# Altium integrated library WE-VE.intlib: 21 symbols
Pins are listed as number, name and electrical type; pins without a type are passive.

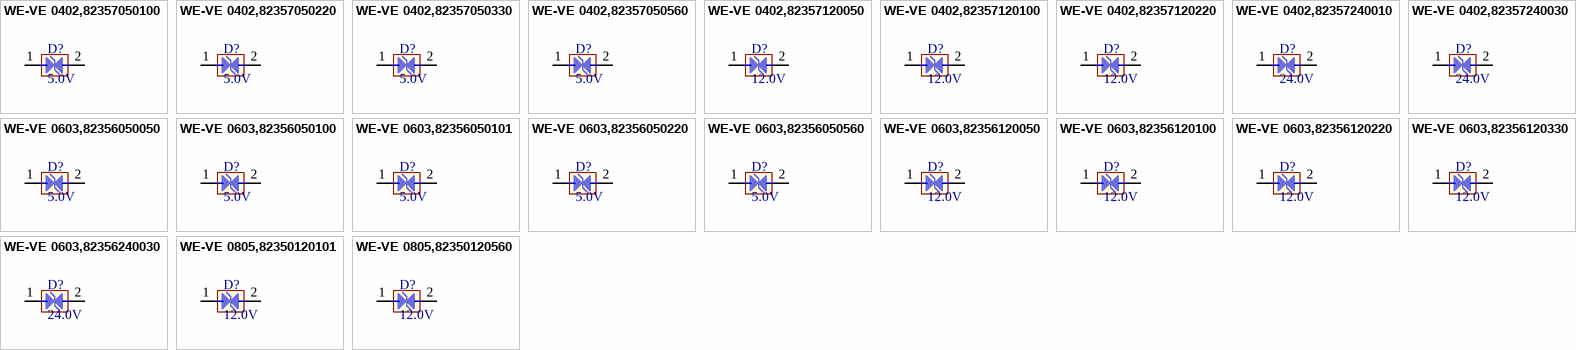
[diagram p0: symbols WE-VE 0402,82357050100 to WE-VE 0805,82350120560]

## WE-VE 0402,82357050100
designator D?, comment 5.0V
ESD Suppressor WE-VE, VDC=5.0V; PartNo: 82357050100; Manufacturer: Würth Elektronik eiSos GmbH; Reverse Stand Off Voltage: 5.0V; ComponentLink1Description: Manufacturer; ComponentLink1URL: http://www.we-online.de; Created by: Christin Zierenner; Created Date: March 2010; ComponentLink2Description: Datasheet; ComponentLink2URL: http://katalog.we-online.de/kataloge/eisos/media/pdf/82357050100.pdf
footprint 0402 (0402, 2-Leads, Body 1.8x0.7mm, Pitch 1.4mm)
pins: 1 I/O1, 2 I/O2

## WE-VE 0402,82357050220
designator D?, comment 5.0V
ESD Suppressor WE-VE, VDC=5.0V; PartNo: 82357050220; Manufacturer: Würth Elektronik eiSos GmbH; Reverse Stand Off Voltage: 5.0V; ComponentLink1Description: Manufacturer; ComponentLink1URL: http://www.we-online.de; Created by: Christin Zierenner; Created Date: March 2010; ComponentLink2Description: Datasheet; ComponentLink2URL: http://katalog.we-online.de/kataloge/eisos/media/pdf/82357050220.pdf
footprint 0402 (0402, 2-Leads, Body 1.8x0.7mm, Pitch 1.4mm)
pins: 1 I/O1, 2 I/O2

## WE-VE 0402,82357050330
designator D?, comment 5.0V
ESD Suppressor WE-VE, VDC=5.0V; PartNo: 82357050330; Manufacturer: Würth Elektronik eiSos GmbH; Reverse Stand Off Voltage: 5.0V; ComponentLink1Description: Manufacturer; ComponentLink1URL: http://www.we-online.de; Created by: Christin Zierenner; Created Date: March 2010; ComponentLink2Description: Datasheet; ComponentLink2URL: http://katalog.we-online.de/kataloge/eisos/media/pdf/82357050330.pdf
footprint 0402 (0402, 2-Leads, Body 1.8x0.7mm, Pitch 1.4mm)
pins: 1 I/O1, 2 I/O2

## WE-VE 0402,82357050560
designator D?, comment 5.0V
ESD Suppressor WE-VE, VDC=5.0V; PartNo: 82357050560; Manufacturer: Würth Elektronik eiSos GmbH; Reverse Stand Off Voltage: 5.0V; ComponentLink1Description: Manufacturer; ComponentLink1URL: http://www.we-online.de; Created by: Christin Zierenner; Created Date: March 2010; ComponentLink2Description: Datasheet; ComponentLink2URL: http://katalog.we-online.de/kataloge/eisos/media/pdf/82357050560.pdf
footprint 0402 (0402, 2-Leads, Body 1.8x0.7mm, Pitch 1.4mm)
pins: 1 I/O1, 2 I/O2

## WE-VE 0402,82357120050
designator D?, comment 12.0V
ESD Suppressor WE-VE, VDC=12.0V; PartNo: 82357120050; Manufacturer: Würth Elektronik eiSos GmbH; Reverse Stand Off Voltage: 12.0V; ComponentLink1Description: Manufacturer; ComponentLink1URL: http://www.we-online.de; Created by: Christin Zierenner; Created Date: March 2010; ComponentLink2Description: Datasheet; ComponentLink2URL: http://katalog.we-online.de/kataloge/eisos/media/pdf/82357120050.pdf
footprint 0402 (0402, 2-Leads, Body 1.8x0.7mm, Pitch 1.4mm)
pins: 1 I/O1, 2 I/O2

## WE-VE 0402,82357120100
designator D?, comment 12.0V
ESD Suppressor WE-VE, VDC=12.0V; PartNo: 82357120100; Manufacturer: Würth Elektronik eiSos GmbH; Reverse Stand Off Voltage: 12.0V; ComponentLink1Description: Manufacturer; ComponentLink1URL: http://www.we-online.de; Created by: Christin Zierenner; Created Date: March 2010; ComponentLink2Description: Datasheet; ComponentLink2URL: http://katalog.we-online.de/kataloge/eisos/media/pdf/82357120100.pdf
footprint 0402 (0402, 2-Leads, Body 1.8x0.7mm, Pitch 1.4mm)
pins: 1 I/O1, 2 I/O2

## WE-VE 0402,82357120220
designator D?, comment 12.0V
ESD Suppressor WE-VE, VDC=12.0V; PartNo: 82357120220; Manufacturer: Würth Elektronik eiSos GmbH; Reverse Stand Off Voltage: 12.0V; ComponentLink1Description: Manufacturer; ComponentLink1URL: http://www.we-online.de; Created by: Christin Zierenner; Created Date: March 2010; ComponentLink2Description: Datasheet; ComponentLink2URL: http://katalog.we-online.de/kataloge/eisos/media/pdf/82357120220.pdf
footprint 0402 (0402, 2-Leads, Body 1.8x0.7mm, Pitch 1.4mm)
pins: 1 I/O1, 2 I/O2

## WE-VE 0402,82357240010
designator D?, comment 24.0V
ESD Suppressor WE-VE, VDC=24.0V; PartNo: 82357240010; Manufacturer: Würth Elektronik eiSos GmbH; Reverse Stand Off Voltage: 24.0V; ComponentLink1Description: Manufacturer; ComponentLink1URL: http://www.we-online.de; Created by: Christin Zierenner; Created Date: March 2010; ComponentLink2Description: Datasheet; ComponentLink2URL: http://katalog.we-online.de/kataloge/eisos/media/pdf/82357240010.pdf
footprint 0402 (0402, 2-Leads, Body 1.8x0.7mm, Pitch 1.4mm)
pins: 1 I/O1, 2 I/O2

## WE-VE 0402,82357240030
designator D?, comment 24.0V
ESD Suppressor WE-VE, VDC=24.0V; PartNo: 82357240030; Manufacturer: Würth Elektronik eiSos GmbH; Reverse Stand Off Voltage: 24.0V; ComponentLink1Description: Manufacturer; ComponentLink1URL: http://www.we-online.de; Created by: Christin Zierenner; Created Date: March 2010; ComponentLink2Description: Datasheet; ComponentLink2URL: http://katalog.we-online.de/kataloge/eisos/media/pdf/82357240030.pdf
footprint 0402 (0402, 2-Leads, Body 1.8x0.7mm, Pitch 1.4mm)
pins: 1 I/O1, 2 I/O2

## WE-VE 0603,82356050050
designator D?, comment 5.0V
ESD Suppressor WE-VE, VDC=5.0V; PartNo: 82356050050; Manufacturer: Würth Elektronik eiSos GmbH; Reverse Stand Off Voltage: 5.0V; ComponentLink1Description: Manufacturer; ComponentLink1URL: http://www.we-online.de; Created by: Christin Zierenner; Created Date: March 2010; ComponentLink2Description: Datasheet; ComponentLink2URL: http://katalog.we-online.de/kataloge/eisos/media/pdf/82356050050.pdf
footprint 0603 (0603, 2-Leads, Body 1.6x0.8mm, Pitch 1.2mm)
pins: 1 I/O1, 2 I/O2

## WE-VE 0603,82356050100
designator D?, comment 5.0V
ESD Suppressor WE-VE, VDC=5.0V; PartNo: 82356050100; Manufacturer: Würth Elektronik eiSos GmbH; Reverse Stand Off Voltage: 5.0V; ComponentLink1Description: Manufacturer; ComponentLink1URL: http://www.we-online.de; Created by: Christin Zierenner; Created Date: March 2010; ComponentLink2Description: Datasheet; ComponentLink2URL: http://katalog.we-online.de/kataloge/eisos/media/pdf/82356050100.pdf
footprint 0603 (0603, 2-Leads, Body 1.6x0.8mm, Pitch 1.2mm)
pins: 1 I/O1, 2 I/O2

## WE-VE 0603,82356050101
designator D?, comment 5.0V
ESD Suppressor WE-VE,VDC=5.0V; PartNo: 82356050101; Manufacturer: Würth Elektronik eiSos GmbH; Reverse Stand Off Voltage: 5.0V; ComponentLink1Description: Manufacturer; ComponentLink1URL: http://www.we-online.de; Created by: Christin Zierenner; Created Date: March 2010; ComponentLink2Description: Datasheet; ComponentLink2URL: http://katalog.we-online.de/kataloge/eisos/media/pdf/82356050101.pdf
footprint 0603 (0603, 2-Leads, Body 1.6x0.8mm, Pitch 1.2mm)
pins: 1 I/O1, 2 I/O2

## WE-VE 0603,82356050220
designator D?, comment 5.0V
ESD Suppressor WE-VE, VDC=5.0V; PartNo: 82356050220; Manufacturer: Würth Elektronik eiSos GmbH; Reverse Stand Off Voltage: 5.0V; ComponentLink1Description: Manufacturer; ComponentLink1URL: http://www.we-online.de; Created by: Christin Zierenner; Created Date: March 2010; ComponentLink2Description: Datasheet; ComponentLink2URL: http://katalog.we-online.de/kataloge/eisos/media/pdf/82356050220.pdf
footprint 0603 (0603, 2-Leads, Body 1.6x0.8mm, Pitch 1.2mm)
pins: 1 I/O1, 2 I/O2

## WE-VE 0603,82356050560
designator D?, comment 5.0V
ESD Suppressor WE-VE,VDC=5.0V; PartNo: 82356050560; Manufacturer: Würth Elektronik eiSos GmbH; Reverse Stand Off Voltage: 5.0V; ComponentLink1Description: Manufacturer; ComponentLink1URL: http://www.we-online.de; Created by: Christin Zierenner; Created Date: March 2010; ComponentLink2Description: Datasheet; ComponentLink2URL: http://katalog.we-online.de/kataloge/eisos/media/pdf/82356050560.pdf
footprint 0603 (0603, 2-Leads, Body 1.6x0.8mm, Pitch 1.2mm)
pins: 1 I/O1, 2 I/O2

## WE-VE 0603,82356120050
designator D?, comment 12.0V
ESD Suppressor WE-VE,VDC=12.0V; PartNo: 82356120050; Manufacturer: Würth Elektronik eiSos GmbH; Reverse Stand Off Voltage: 12.0V; ComponentLink1Description: Manufacturer; ComponentLink1URL: http://www.we-online.de; Created by: Christin Zierenner; Created Date: March 2010; ComponentLink2Description: Datasheet; ComponentLink2URL: http://katalog.we-online.de/kataloge/eisos/media/pdf/82356120050.pdf
footprint 0603 (0603, 2-Leads, Body 1.6x0.8mm, Pitch 1.2mm)
pins: 1 I/O1, 2 I/O2

## WE-VE 0603,82356120100
designator D?, comment 12.0V
ESD Suppressor WE-VE,VDC=12.0V; PartNo: 82356120100; Manufacturer: Würth Elektronik eiSos GmbH; Reverse Stand Off Voltage: 12.0V; ComponentLink1Description: Manufacturer; ComponentLink1URL: http://www.we-online.de; Created by: Christin Zierenner; Created Date: March 2010; ComponentLink2Description: Datasheet; ComponentLink2URL: http://katalog.we-online.de/kataloge/eisos/media/pdf/82356120100.pdf
footprint 0603 (0603, 2-Leads, Body 1.6x0.8mm, Pitch 1.2mm)
pins: 1 I/O1, 2 I/O2

## WE-VE 0603,82356120220
designator D?, comment 12.0V
ESD Suppressor WE-VE,VDC=12.0V; PartNo: 82356120220; Manufacturer: Würth Elektronik eiSos GmbH; Reverse Stand Off Voltage: 12.0V; ComponentLink1Description: Manufacturer; ComponentLink1URL: http://www.we-online.de; Created by: Christin Zierenner; Created Date: March 2010; ComponentLink2Description: Datasheet; ComponentLink2URL: http://katalog.we-online.de/kataloge/eisos/media/pdf/82356120220.pdf
footprint 0603 (0603, 2-Leads, Body 1.6x0.8mm, Pitch 1.2mm)
pins: 1 I/O1, 2 I/O2

## WE-VE 0603,82356120330
designator D?, comment 12.0V
ESD Suppressor WE-VE,VDC=12.0V; PartNo: 82356120330; Manufacturer: Würth Elektronik eiSos GmbH; Reverse Stand Off Voltage: 12.0V; ComponentLink1Description: Manufacturer; ComponentLink1URL: http://www.we-online.de; Created by: Christin Zierenner; Created Date: March 2010; ComponentLink2Description: Datasheet; ComponentLink2URL: http://katalog.we-online.de/kataloge/eisos/media/pdf/82356120330.pdf
footprint 0603 (0603, 2-Leads, Body 1.6x0.8mm, Pitch 1.2mm)
pins: 1 I/O1, 2 I/O2

## WE-VE 0603,82356240030
designator D?, comment 24.0V
ESD Suppressor WE-VE,VDC=24.0V; PartNo: 82356240030; Manufacturer: Würth Elektronik eiSos GmbH; Reverse Stand Off Voltage: 24.0V; ComponentLink1Description: Manufacturer; ComponentLink1URL: http://www.we-online.de; Created by: Christin Zierenner; Created Date: March 2010; ComponentLink2Description: Datasheet; ComponentLink2URL: http://katalog.we-online.de/kataloge/eisos/media/pdf/82356240030.pdf
footprint 0603 (0603, 2-Leads, Body 1.6x0.8mm, Pitch 1.2mm)
pins: 1 I/O1, 2 I/O2

## WE-VE 0805,82350120101
designator D?, comment 12.0V
ESD Suppressor WE-VE,VDC=12.0V; PartNo: 82350120101; Manufacturer: Würth Elektronik eiSos GmbH; Reverse Stand Off Voltage: 12.0V; ComponentLink1Description: Manufacturer; ComponentLink1URL: http://www.we-online.de; Created by: Christin Zierenner; Created Date: March 2010; ComponentLink2Description: Datasheet; ComponentLink2URL: http://katalog.we-online.de/kataloge/eisos/media/pdf/82350120101.pdf
footprint 0805 (0805, 2-Leads, Body 1.25x2mm, Pitch 1.2mm)
pins: 1 I/O1, 2 I/O2

## WE-VE 0805,82350120560
designator D?, comment 12.0V
ESD Suppressor WE-VE,VDC=12.0V; PartNo: 82350120560; Manufacturer: Würth Elektronik eiSos GmbH; Reverse Stand Off Voltage: 12.0V; ComponentLink1Description: Manufacturer; ComponentLink1URL: http://www.we-online.de; Created by: Christin Zierenner; Created Date: March 2010; ComponentLink2Description: Datasheet; ComponentLink2URL: http://katalog.we-online.de/kataloge/eisos/media/pdf/82350120560.pdf
footprint 0805 (0805, 2-Leads, Body 1.25x2mm, Pitch 1.2mm)
pins: 1 I/O1, 2 I/O2